# Altium schematic symbol library ESD.SchLib: 5 symbols
Pins are listed as number, name and electrical type; pins without a type are passive.

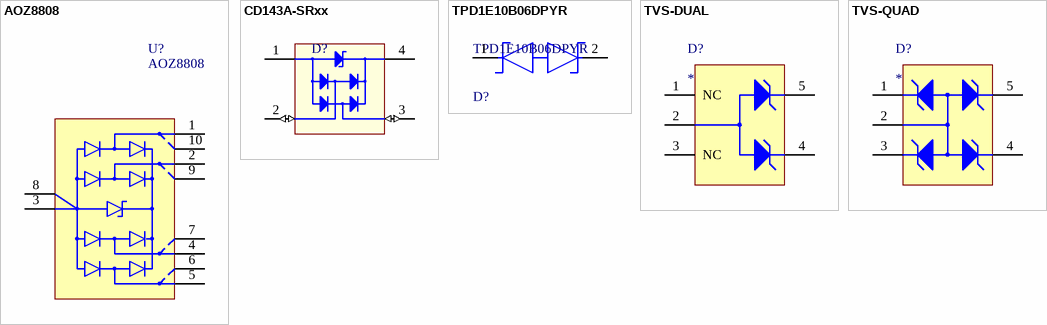
[diagram p0: symbols AOZ8808 to TVS-QUAD]

## AOZ8808
designator U?
pins: 1 CH1, 2 CH2, 3 VN, 4 CH3, 5 CH4, 6 NC, 7 NC, 8 VN, 9 NC, 10 NC

## CD143A-SRxx
designator D?
TVS protection array for usb, eth, portable electronics
pins: 1 GND, 2 I/O (io), 3 I/O (io), 4 REF

## TPD1E10B06DPYR
designator D?
TVS DIODE 5.5V 14V 2X1SON; Leakage Current: 100nA; Min Breakdown Voltage: 6V; Number of Channels: 1; ESD Protection: Yes; Power Line Protection: No; Test Current: 1mA; Interface: GPIO; Element Configuration: Single; Peak Pulse Current: 5A; Direction: Bidirectional; Peak Pulse Power: 90W; Capacitance: 12pF; Composition: Zener; Packaging: Tape and Reel; Number of Pins: 2; Breakdown Voltage: 6V; Radiation Hardening: No; Min Operating Temperature: -40°C; Contact Plating: Gold; Lead Free: Lead Free; Height: 0.35mm; REACH SVHC: No SVHC; Case/Package: 0402; Max Operating Temperature: 125°C; Width: 0.7mm; Clamping Voltage: 14V; Package Quantity: 1; Max Reverse Leakage Current: 100nA; Working Voltage: 5.5V; Length: 1.1mm; Number of Bidirectional Channels: 1; Reverse Standoff Voltage: 5.5V
footprint FP-DPY0002A-MFG
pins: 1, 2

## TVS-DUAL
designator D?
pins: 1 NC, 2, 3 NC, 4, 5

## TVS-QUAD
designator D?
pins: 1, 2, 3, 4, 5